# Altium integrated library RF Antenna.IntLib: 1 symbol
Pins are listed as number, name and electrical type; pins without a type are passive.

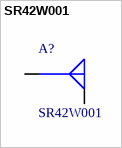
[diagram p0: symbol SR42W001]

## SR42W001
designator A?
ANTENNA 2.4-2.5, 4.9-5.9GHZ SMD; Manufacturer: Antenova; Frequency: 2.4GHz ~ 2.5GHz, 4.9GHz ~ 5.9GHz; Antenna Type: Chip; Gain: 2dBi; Part Number: SR42W001; PartId: 21198; Supplier 1: Digi-Key; Supplier Part Number 1: 627-1062-1-ND; ComponentLink1Description: Datasheet; ComponentLink1URL: http://www.antenova-m2m.com/wp-content/uploads/2015/11/Mutica-SR24W001-PS-1.1.pdf; ComponentLink2Description: Digi-Key Listing; ComponentLink2URL: http://www.digikey.com/product-detail/en/antenova/SR42W001/627-1062-1-ND/5623994; Price: 2.36; Type: RF Antennas; Series: -; Power Max: -; Termination: Solder; Applications: WLAN
footprint ANTENOVA SR42W001
pins: G, S